# Altium integrated library GX-8.IntLib: 1 symbol
Pins are listed as number, name and electrical type; pins without a type are passive.

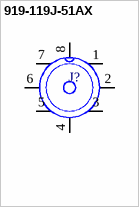
[diagram p0: symbol 919-119J-51AX]

## 919-119J-51AX
designator J?
MCX RF Coaxial PCB Connector, Thru-Hole, Right-Angle Mount Socket, Blunt Post Terminal, 50 Ohm Impedance; PCB_Layout: Complies with manufacturer's recommendation.; DrillSize: Corresponds to nominal value.; Published: 15-Jul-2004; DatasheetDocument: 30-May-2003; PackageDocument: 04-Jul-1999; PackageReference: 919-119J; Publisher: Altium Limited; ComponentLink1Description: Manufacturer Link; ComponentLink1URL: http://www.amphenolrf.com/; ComponentLink2Description: Datasheet; ComponentLink2URL: http://www.amphenolrf.com/pdf/21.pdf
footprint GX-8 (8 Position Circular Connector Receptacle, Male Pins Solder)
pins: 1 "Signal Pin", 2, 3, 4, 5, 6, 7, 8